# Altium schematic symbol library KB-Header_2.54_4P.SchLib: 1 symbol
Pins are listed as number, name and electrical type; pins without a type are passive.

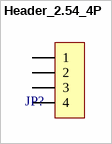
[diagram p0: symbol Header_2.54_4P]

## Header_2.54_4P
designator JP?
pins: 1, 2, 3, 4